# Altium schematic symbol library TrackCommanderCar_ControlPart.SchLib: 58 symbols
Pins are listed as number, name and electrical type; pins without a type are passive.

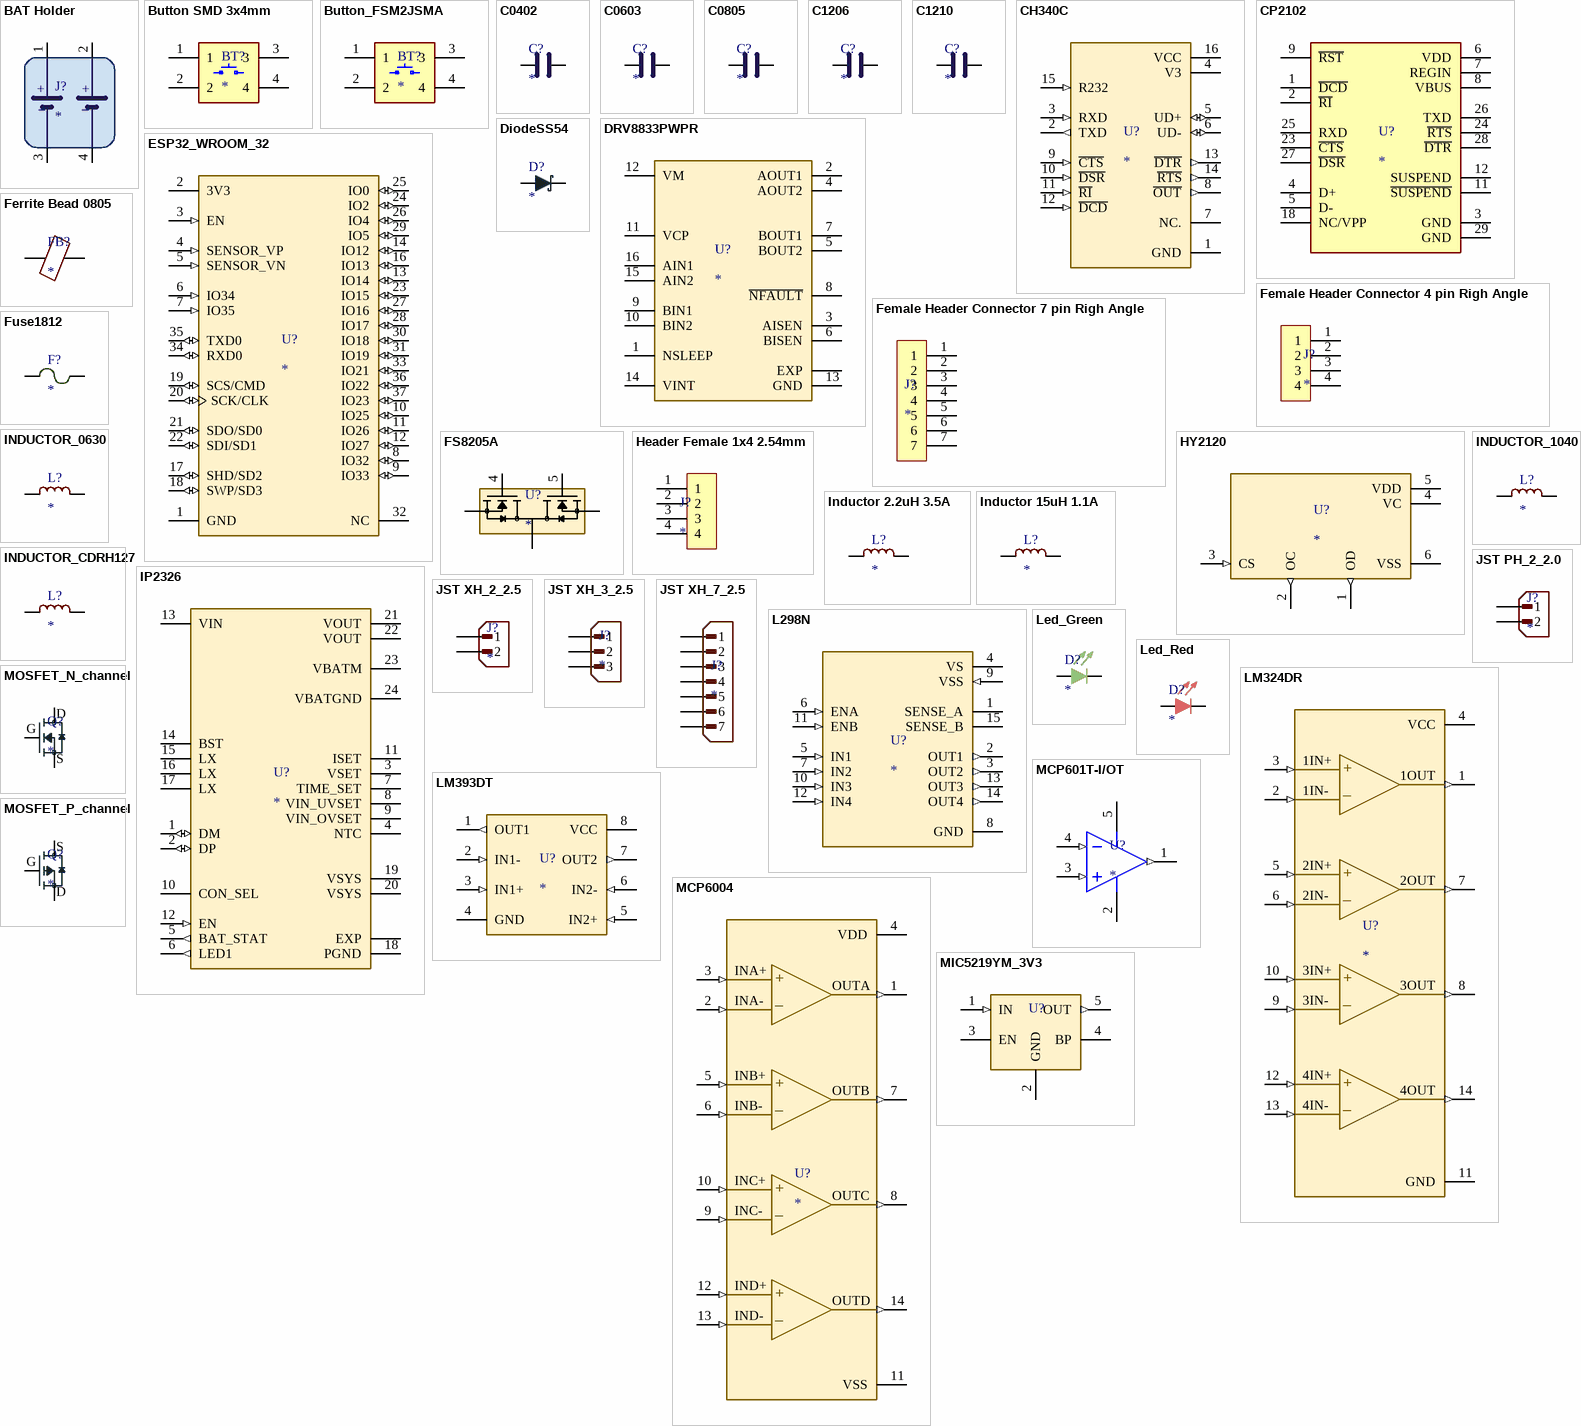
[diagram p0: symbols BAT Holder to MOSFET_P_channel]

## BAT Holder
designator J?
footprint BAT HOLDER BLM 18650 2PCS
pins: 1 BAT1+, 2 BAT2+, 3 BAT1-, 4 BAT2-
text: +; _

## Button SMD 3x4mm
designator BT?
footprint Button SMD 3x4mm (Button SMD 3x4mm, Height 2.5 mm.)
pins: 1, 2, 3, 4

## Button_FSM2JSMA
designator BT?
footprint Button_FSM2JSMA
pins: 1, 2, 3, 4

## C0402
designator C?
footprint C_0402
pins: 1, 2

## C0603
designator C?
footprint C_0603
pins: 1, 2

## C0805
designator C?
footprint C_0805
pins: 1, 2

## C1206
designator C?
footprint C_1206
pins: 1, 2

## C1210
designator C?
footprint C_1210
pins: 1, 2

## CH340C
designator U?
footprint CH340C
pins: 1 GND (power), 2 TXD (out), 3 RXD (in), 4 V3 (power), 5 UD+ (io), 6 UD- (io), 7 NC., 8 ~{OUT} (out), 9 ~{CTS} (in), 10 ~{DSR} (in), 11 ~{RI} (in), 12 ~{DCD} (in), 13 ~{DTR} (out), 14 ~{RTS} (out), 15 R232 (in), 16 VCC (power)

## CP2102
designator U?
footprint CP2102
pins: 1 ~{DCD}, 2 ~{RI}, 3 GND, 4 D+, 5 D-, 6 VDD, 7 REGIN, 8 VBUS, 9 ~{RST}, 11 ~{SUSPEND}, 12 SUSPEND, 18 NC/VPP, 23 ~{CTS}, 24 ~{RTS}, 25 RXD, 26 TXD, 27 ~{DSR}, 28 ~{DTR}, 29 GND

## DiodeSS54
designator D?
footprint DiodeS54
pins: 1 K, 2 A

## DRV8833PWPR
designator U?
Dual H-Bridge Motor Driver
footprint UMH3N SOT363
pins: 1 NSLEEP, 2 AOUT1, 3 AISEN, 4 AOUT2, 5 BOUT2, 6 BISEN, 7 BOUT1, 8 ~{NFAULT}, 9 BIN1, 10 BIN2, 11 VCP, 12 VM, 13 GND, 14 VINT, 15 AIN2, 16 AIN1, GND EXP

## ESP32_WROOM_32
designator U?
footprint ESP32_Wroom_32
pins: 1 GND (power), 2 3V3 (power), 3 EN (in), 4 SENSOR_VP (in), 5 SENSOR_VN (in), 6 IO34 (in), 7 IO35 (in), 8 IO32 (io), 9 IO33 (io), 10 IO25 (io), 11 IO26 (io), 12 IO27 (io), 13 IO14 (io), 14 IO12 (io), 15 GND (power), 16 IO13 (io), 17 SHD/SD2 (io), 18 SWP/SD3 (io), 19 SCS/CMD (io), 20 SCK/CLK (io), 21 SDO/SD0 (io), 22 SDI/SD1 (io), 23 IO15 (io), 24 IO2 (io), 25 IO0 (io), 26 IO4 (io), 27 IO16 (io), 28 IO17 (io), 29 IO5 (io), 30 IO18 (io), 31 IO19 (io), 32 NC, 33 IO21 (io), 34 RXD0 (io), 35 TXD0 (io), 36 IO22 (io), 37 IO23 (io), 38 GND (power), GND (power)

## Female Header Connector 4 pin Righ Angle
designator J?
Female Header Connector 4 pin Righ Angle
footprint Female Header Connector Righ Angle
pins: 1, 2, 3, 4

## Female Header Connector 7 pin Righ Angle
designator J?
Female Header Connector 7 pin Righ Angle
footprint 7 Position Receptacle Connector 0.100" (2.54mm) Through Hole, Right Angle
pins: 1, 2, 3, 4, 5, 6, 7

## Ferrite Bead 0805
designator FB?
footprint Ferrite bead 0805
pins: 1, 2

## FS8205A
designator U?
Back to back MOSFET
footprint FS8205A
pins: 1 D12, 2 S1, 3 S1, 4 G1, 5 G2, 6 S2, 7 S2, 8 D12

## Fuse1812
designator F?
footprint Fuse1812
pins: 1, 2

## Header Female 1x4 2.54mm
designator J?
footprint Header Female 1x4 2.54mm
pins: 1, 2, 3, 4

## HY2120
designator U?
Battery protection
footprint HY2120
pins: 1 OD (out), 2 OC (out), 3 CS (in), 4 VC, 5 VDD, 6 VSS

## Inductor 2.2uH 3.5A
designator L?
footprint Inductor 2.2uH 3.5A
pins: 1, 2

## Inductor 15uH 1.1A
designator L?
15uH 1.1A, size 5.7x5.7x3.2 mm
footprint Inductor SMD 15uH 1.1A (SMD Power Inductor 15uH 1.1A, Size 5.7x5.7x3.2 mm)
pins: 1, 2

## INDUCTOR_0630
designator L?
footprint Inductor0630
pins: 1, 2

## INDUCTOR_1040
designator L?
footprint INDUCTOR 1040
pins: 1, 2

## INDUCTOR_CDRH127
designator L?
footprint INDUCTOR CDRH127
pins: 1, 2

## IP2326
designator U?
footprint IP2326_QFN_24
pins: 1 DM (io), 2 DP (io), 3 VSET, 4 NTC, 5 BAT_STAT (out), 6 LED1 (out), 7 TIME_SET, 8 VIN_UVSET, 9 VIN_OVSET, 10 CON_SEL, 11 ISET, 12 EN (in), 13 VIN, 14 BST, 15 LX, 16 LX, 17 LX, 18 PGND, 19 VSYS, 20 VSYS, 21 VOUT, 22 VOUT, 23 VBATM, 24 VBATGND, GND EXP

## JST PH_2_2.0
designator J?
footprint JST PH_2_2.0
pins: 1, 2

## JST XH_2_2.5
designator J?
footprint JST XH_2_2.5
pins: 1, 2

## JST XH_3_2.5
designator J?
footprint JST XH_3_2.5
pins: 1, 2, 3

## JST XH_7_2.5
designator J?
footprint JST XH_7_2.5
pins: 1, 2, 3, 4, 5, 6, 7

## L298N
designator U?
footprint TO127P2020X500X2100-15
pins: 1 SENSE_A, 2 OUT1 (out), 3 OUT2 (out), 4 VS (power), 5 IN1 (in), 6 ENA (in), 7 IN2 (in), 8 GND (power), 9 VSS (in), 10 IN3 (in), 11 ENB (in), 12 IN4 (in), 13 OUT3 (out), 14 OUT4 (out), 15 SENSE_B

## Led_Green
designator D?
footprint Led_0603
pins: 1 K, 2 A

## Led_Red
designator D?
footprint Led_0603
pins: 1 K, 2 A

## LM324DR
designator U?
footprint LM324DR
pins: 1 1OUT (out), 2 1IN- (in), 3 1IN+ (in), 4 VCC (power), 5 2IN+ (in), 6 2IN- (in), 7 2OUT (out), 8 3OUT (out), 9 3IN- (in), 10 3IN+ (in), 11 GND (power), 12 4IN+ (in), 13 4IN- (in), 14 4OUT (out)
text: +; _

## LM393DT
designator U?
footprint LM393DT
pins: 1 OUT1 (out), 2 IN1- (in), 3 IN1+ (in), 4 GND, 5 IN2+ (in), 6 IN2- (in), 7 OUT2 (out), 8 VCC (power)

## MCP601T-I/OT
designator U?
Op Amp Single Low Power Amplifier R-R O/P 6V Automotive 5-Pin SOT-23 T/R; Manufacturer: Microchip; Manufacturer Part Number: MCP601T-I/OT; Bandwidth: 2.8MHz; Common Mode Rejection Ratio: 75dB; Input Bias Current: 60pA; Input Offset Voltage (Vos): 2mV; Max Output Current: 30mA; Max Supply Current: 2mA; Min Supply Voltage: 2.7V; Nominal Supply Current: 230µA; Number of Amplifiers: 1; Operating Supply Voltage: 5.5V; Output Current: 22mA; Power Supply Rejection Ratio (PSRR): 80dB; Settling Time: 4.5µs; Slew Rate: 2.3V/µs; Voltage: 5V; Voltage Gain: 115dB; Supplier 1: Arrow Electronics; RoHS: Compliant; Category: Amplifiers - Op Amps, Buffer, Instrumentation; Stock 1: 12000; Pricing 1: 3000=0.4064 (USD); Projected EOL Date: 2034-01-01; Case/Package: SOT-23; Country of Assembly: Malaysia, Thailand; Country of Fabrication: United States of America; Country of Origin: Malaysia, Thailand; Export Control Classification Number (ECCN) Code: EAR99; Gain Bandwidth Product: 2.8MHz; Height: 1.3mm; Harmonized Tariff Schedule (HTS) Code: 8542.33.0001; Introduction Date: 2002-01-01; Lead Free: Lead Free; Length: 3.1mm; Lifecycle Status: Production; Max Operating Temperature: 85°C; Max Supply Voltage: 6V; Min Operating Temperature: -40°C; Mount: Surface Mount; Number of Channels: 1; Number of Circuits: 1; Number of Elements: 1; Number of Pins: 5; Packaging: Cut Tape; Radiation Hardening: No; REACH SVHC: No; Schedule B: 8542330000, 8542330000|8542330000|8542330000|8542330000|8542330000; Width: 1.8mm; ComponentLink1URL: https://datasheet.octopart.com:443/MCP601T-I/OT-Microchip-datasheet-8327811.pdf?src-supplier=Augswan; ComponentLink1Description: https://datasheet.octopart.com:443/MCP601T-I/OT-Microchip-datasheet-8327811.pdf?src-supplier=Augswan; ComponentLink2URL: https://datasheet.octopart.com:443/MCP601T-I/OT-Microchip-datasheet-7869.pdf?src-supplier=element14; ComponentLink2Description: https://datasheet.octopart.com:443/MCP601T-I/OT-Microchip-datasheet-7869.pdf?src-supplier=element14; ComponentLink3URL: https://datasheet.octopart.com:443/MCP601T-I-OT-Microchip-datasheet-170283493.pdf?src-supplier=Microchip; ComponentLink3Description: https://datasheet.octopart.com:443/MCP601T-I-OT-Microchip-datasheet-170283493.pdf?src-supplier=Microchip; ComponentLink4URL: https://datasheet.octopart.com:443/MCP601T-I-OT-Microchip-datasheet-158592061.pdf?src-supplier=SHENGYU+ELECTRONICS; ComponentLink4Description: https://datasheet.octopart.com:443/MCP601T-I-OT-Microchip-datasheet-158592061.pdf?src-supplier=SHENGYU+ELECTRONICS; ComponentLink5URL: https://datasheet.octopart.com:443/MCP601T-I/OT-Microchip-datasheet-9917688.pdf?src-supplier=RS+(Formerly+Allied+Electronics); ComponentLink5Description: https://datasheet.octopart.com:443/MCP601T-I/OT-Microchip-datasheet-9917688.pdf?src-supplier=RS+(Formerly+Allied+Electronics); ComponentLink6URL: https://datasheet.octopart.com:443/MCP601T-I-OT-Microchip-datasheet-140568181.pdf?src-supplier=Arrow.cn; ComponentLink6Description: https://datasheet.octopart.com:443/MCP601T-I-OT-Microchip-datasheet-140568181.pdf?src-supplier=Arrow.cn; ComponentLink7URL: http://sigma.octopart.com:80/188449423/materials_sheet/Microchip-MCP601T-I-OT.pdf?src-supplier=Compliance+Statements; ComponentLink7Description: http://sigma.octopart.com:80/188449423/materials_sheet/Microchip-MCP601T-I-OT.pdf?src-supplier=Compliance+Statements; ComponentLink8URL: http://sigma.octopart.com:80/conflict_mineral_statement/Microchip-company-68.pdf?src-supplier=Compliance+Statements; ComponentLink8Description: http://sigma.octopart.com:80/conflict_mineral_statement/Microchip-company-68.pdf?src-supplier=Compliance+Statements; ComponentLink9URL: http://sigma.octopart.com:80/conflict_mineral_statement/Microchip-company-69.pdf?src-supplier=Compliance+Statements; ComponentLink9Description: http://sigma.octopart.com:80/conflict_mineral_statement/Microchip-company-69.pdf?src-supplier=Compliance+Statements; ComponentLink10URL: http://sigma.octopart.com:80/reach_statement/Microchip-company-70.pdf?src-supplier=Compliance+Statements; ComponentLink10Description: http://sigma.octopart.com:80/reach_statement/Microchip-company-70.pdf?src-supplier=Compliance+Statements; ComponentLink11URL: http://sigma.octopart.com:80/rohs_statement/Microchip-company-71.pdf?src-supplier=Compliance+Statements; ComponentLink11Description: http://sigma.octopart.com:80/rohs_statement/Microchip-company-71.pdf?src-supplier=Compliance+Statements; Supplier Part Number 1: MCP601T-I/OT
footprint SOT23_OPAMP
pins: 1 VOUT (out), 2 VSS (power), 3 VIN+ (in), 4 VIN- (in), 5 VDD (power)

## MCP6004
designator U?
OP_AMP rail to rail
footprint MCP6004_SOIC
pins: 1 1OUT (out), 2 1IN- (in), 3 1IN+ (in), 4 VDD (power), 5 2IN+ (in), 6 2IN- (in), 7 2OUT (out), 8 3OUT (out), 9 3IN- (in), 10 3IN+ (in), 11 VSS (power), 12 4IN+ (in), 13 4IN- (in), 14 4OUT (out)
text: INA+; +; OUTA; INA-; _; INB+; OUTB; INB-; INC+; OUTC; INC-; IND+; OUTD; IND-

## MIC5219YM_3V3
designator U?
footprint MIC5219_SOT23_5
pins: 1 IN (in), 2 GND, 3 EN, 4 BP, 5 OUT (out)

## MOSFET_N_channel
designator Q?
footprint SOT-23
pins: 1 G, 2 S, 3 D

## MOSFET_P_channel
designator Q?
footprint SOT-23
pins: 1 G, 2 S, 3 D

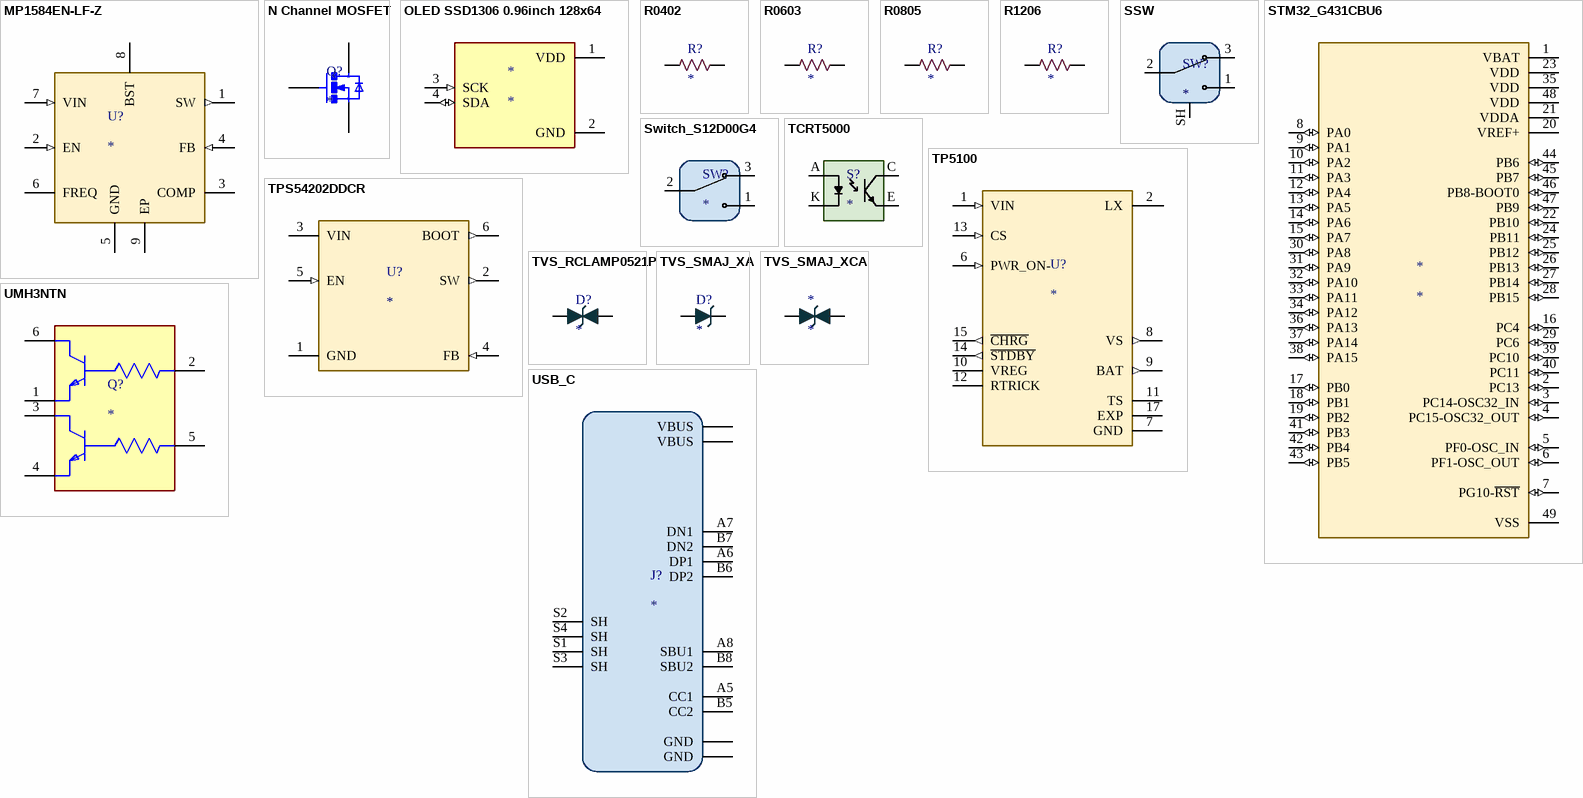
[diagram p1: symbols MP1584EN-LF-Z to USB_C]

## MP1584EN-LF-Z
designator U?
footprint SOIC127P600X170-9N
pins: 1 SW (out), 2 EN (in), 3 COMP, 4 FB (in), 5 GND (power), 6 FREQ, 7 VIN (in), 8 BST, 9 EP (power)

## N Channel MOSFET
designator Q?
footprint SOT-23
pins: 1 GATE, 2 DRAIN, 3 SOURCE, 4 DRAIN, 4.1 DRAIN

## OLED SSD1306 0.96inch 128x64
designator *
footprint OLED_SSD1306_0.96inch_128x64
pins: 1 VDD (power), 2 GND (power), 3 SCK (in), 4 SDA (io)

## R0402
designator R?
footprint R_0402
pins: 1, 2

## R0603
designator R?
footprint R_0603
pins: 1, 2

## R0805
designator R?
footprint R_0805
pins: 1, 2

## R1206
designator R?
footprint R_1206
pins: 1, 2

## SSW
designator SW?
footprint Slide_SW_SS12F23G4
pins: 1, 2, 3, SH

## STM32_G431CBU6
designator *
footprint STM32_G431
pins: 1 VBAT (power), 2 PC13 (io), 3 PC14-OSC32_IN (io), 4 PC15-OSC32_OUT (io), 5 PF0-OSC_IN (io), 6 PF1-OSC_OUT (io), 7 PG10-~{RST} (io), 8 PA0 (io), 9 PA1 (io), 10 PA2 (io), 11 PA3 (io), 12 PA4 (io), 13 PA5 (io), 14 PA6 (io), 15 PA7 (io), 16 PC4 (io), 17 PB0 (io), 18 PB1 (io), 19 PB2 (io), 20 VREF+ (power), 21 VDDA (power), 22 PB10 (io), 23 VDD (power), 24 PB11 (io), 25 PB12 (io), 26 PB13 (io), 27 PB14 (io), 28 PB15 (io), 29 PC6 (io), 30 PA8 (io), 31 PA9 (io), 32 PA10 (io), 33 PA11 (io), 34 PA12 (io), 35 VDD (power), 36 PA13 (io), 37 PA14 (io), 38 PA15 (io), 39 PC10 (io), 40 PC11 (io), 41 PB3 (io), 42 PB4 (io), 43 PB5 (io), 44 PB6 (io), 45 PB7 (io), 46 PB8-BOOT0 (io), 47 PB9 (io), 48 VDD (power), 49 VSS (power)

## Switch_S12D00G4
designator SW?
footprint Switch_SS12D00G4
pins: 1, 2, 3

## TCRT5000
designator S?
footprint TCRT5000
pins: A, CATH, COLL, E
text: C; K

## TP5100
designator U?
2A-switch buck 8.4V / 4.2V rechargeable lithium battery; MP: TP5100; MF: NanJing Top Power ASIC Corp.; Availability: Not in stock; Price: None; Value: *; SnapEDA_Link: https://www.snapeda.com/parts/TP5100/NanJing+Top+Power+ASIC+Corp./view-part/?ref=snap; Check_prices: https://www.snapeda.com/parts/TP5100/NanJing+Top+Power+ASIC+Corp./view-part/?ref=eda; Package: Package
footprint QFN65P400X400X90-17N
pins: 1 VIN (in), 2 LX, 3 LX, 4 VIN (in), 5 VIN (in), 6 PWR_ON- (in), 7 GND (power), 8 VS (out), 9 BAT (out), 10 VREG, 11 TS, 12 RTRICK, 13 CS (in), 14 ~{STDBY} (out), 15 ~{CHRG} (out), 16 VIN (in), 17 EXP

## TPS54202DDCR
designator U?
footprint TPS54202DDCR
pins: 1 GND (power), 2 SW (out), 3 VIN, 4 FB (in), 5 EN (in), 6 BOOT (out)

## TVS_RCLAMP0521P
designator D?
footprint TVS_RCLAMP0521P
pins: 1, 2

## TVS_SMAJ_XA
designator D?
footprint TVS_SMAJ_XA
pins: 1 C, 2 A

## TVS_SMAJ_XCA
designator *
footprint TVS_SMAJ_XCA
pins: 1, 2

## UMH3NTN
designator Q?
Small Signal Bipolar Transistor, 0.1A I(C), 50V V(BR)CEO, 2-Element, NPN, Silicon; Manufacturer: ROHM; Manufacturer Part Number: UMH3NTN; Collector Emitter Saturation Voltage: 300mV; Continuous Collector Current: 100mA; Element Configuration: Dual; Emitter Base Voltage (VEBO): 5V; hFE Min: 100; Max Junction Temperature (Tj): 150°C; Max Power Dissipation: 150mW; Number of Elements: 2; Transition Frequency: 250MHz; Supplier 1: DigiKey; RoHS: Compliant; Category: BJTs; Stock 1: 7536; Pricing 1: 1=0.47, 10=0.29, 100=0.1836, 500=0.1375, 1000=0.12259 (USD); Case/Package: SOT-363; Collector Base Voltage (VCBO): 50V; Collector Emitter Breakdown Voltage: 50V; Collector Emitter Voltage (VCEO): 50V; Current Rating: 100mA; Height: 1mm; Lead Free: Lead Free; Lifecycle Status: Production; Max Breakdown Voltage: 50V; Max Collector Current: 100mA; Max Operating Temperature: 150°C; Max Output Current: 100mA; Min Operating Temperature: -55°C; Mount: Surface Mount; Number of Pins: 6; Number of Terminals: 6; Operating Supply Voltage: 50V; Polarity: NPN; Power Dissipation: 150mW; Radiation Hardening: No; REACH SVHC: Yes; Schedule B: 8541210080|8541210080|8541210080|8541210080|8541210080; Voltage Rating (DC): 50V; ComponentLink1URL: https://datasheet.octopart.com:443/UMH3NTN-ROHM-datasheet-181221233.pdf?src-supplier=Farnell; ComponentLink1Description: https://datasheet.octopart.com:443/UMH3NTN-ROHM-datasheet-181221233.pdf?src-supplier=Farnell; ComponentLink2URL: https://datasheet.octopart.com:443/UMH3NTN-Rohm-datasheet-82997545.pdf?src-supplier=Farnell; ComponentLink2Description: https://datasheet.octopart.com:443/UMH3NTN-Rohm-datasheet-82997545.pdf?src-supplier=Farnell; ComponentLink3URL: https://sigma.octopart.com:443/154577397/technical_drawing/ROHM-UMH3NTN.pdf?src-supplier=Upverter; ComponentLink3Description: https://sigma.octopart.com:443/154577397/technical_drawing/ROHM-UMH3NTN.pdf?src-supplier=Upverter; ComponentLink4URL: https://datasheet.octopart.com:443/UMH3NTN-Rohm-datasheet-548145.pdf?src-supplier=Newark; ComponentLink4Description: https://datasheet.octopart.com:443/UMH3NTN-Rohm-datasheet-548145.pdf?src-supplier=Newark; ComponentLink5URL: https://datasheet.octopart.com:443/UMH3NTN-Rohm-datasheet-41569966.pdf?src-supplier=Newark; ComponentLink5Description: https://datasheet.octopart.com:443/UMH3NTN-Rohm-datasheet-41569966.pdf?src-supplier=Newark; ComponentLink6URL: https://datasheet.octopart.com:443/UMH3NTN-Rohm-datasheet-142144791.pdf?src-supplier=Rohm+SCT; ComponentLink6Description: https://datasheet.octopart.com:443/UMH3NTN-Rohm-datasheet-142144791.pdf?src-supplier=Rohm+SCT; ComponentLink7URL: https://datasheet.octopart.com:443/UMH3NTN-Rohm-datasheet-61695679.pdf?src-supplier=Future+Electronics; ComponentLink7Description: https://datasheet.octopart.com:443/UMH3NTN-Rohm-datasheet-61695679.pdf?src-supplier=Future+Electronics; ComponentLink8URL: https://datasheet.octopart.com:443/UMH3NTN-Rohm-datasheet-21405252.pdf?src-supplier=element14+APAC; ComponentLink8Description: https://datasheet.octopart.com:443/UMH3NTN-Rohm-datasheet-21405252.pdf?src-supplier=element14+APAC; ComponentLink9URL: https://datasheet.octopart.com:443/UMH3NTN-Rohm-datasheet-31182.pdf?src-supplier=DigiKey; ComponentLink9Description: https://datasheet.octopart.com:443/UMH3NTN-Rohm-datasheet-31182.pdf?src-supplier=DigiKey; ComponentLink10URL: https://datasheet.octopart.com:443/UMH3NTN-Rohm-datasheet-14064263.pdf?src-supplier=iiiC; ComponentLink10Description: https://datasheet.octopart.com:443/UMH3NTN-Rohm-datasheet-14064263.pdf?src-supplier=iiiC; Supplier Part Number 1: UMH3NTNCT-ND
footprint UMH3N SOT363
pins: 1 E, 2 B, 3 C, 4 E, 5 B, 6 C

## USB_C
designator J?
16_PIN
footprint USB_C_16Pin
pins: A1_B12 GND (power), A4_B9 VBUS (power), A5 CC1, A6 DP1, A7 DN1, A8 SBU1, B1_A12 GND (power), B4_A9 VBUS (power), B5 CC2, B6 DP2, B7 DN2, B8 SBU2, S1 SH, S2 SH, S3 SH, S4 SH